# EAGLE library part LPC4300_LQFP208 (library LPC4300)
LQFP208 - SOT459-1 LQFP208: plastic low profile quad flat package; 208 leads; body 28 x 28 x 1.4 mm body + leads 30 x 30 mm Solderland (pads) 0.4 x 1.5 mm on corners (8 x) and 0.28 x 1.5 mm (200 x)
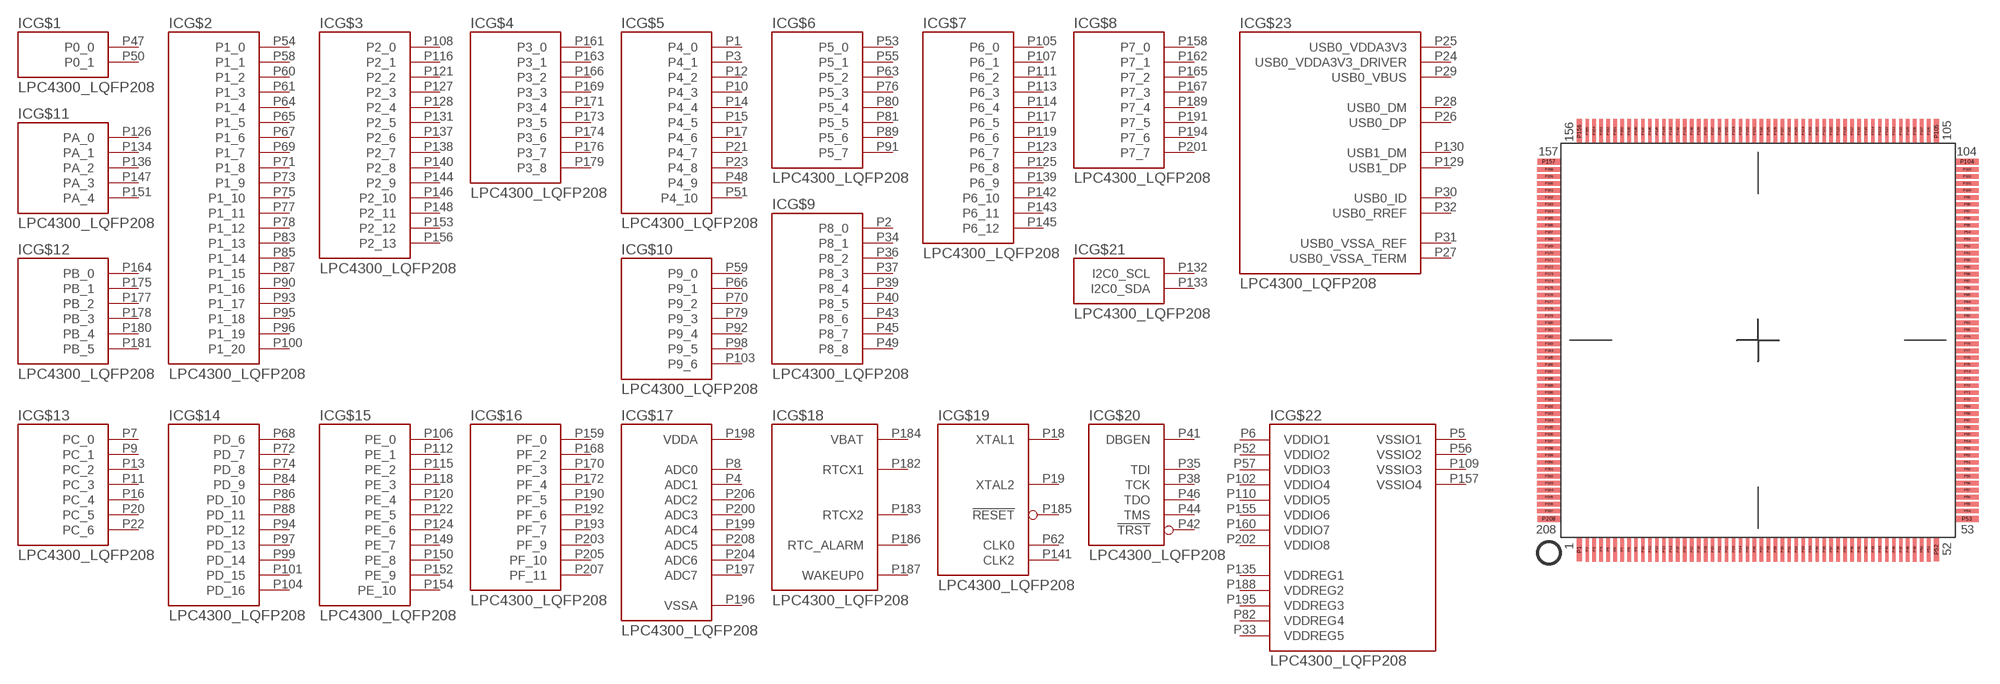
[diagram p3: symbol with the pads of LQFP208; footprint LQFP208]

Designator prefix IC; gates G$1=208_1_PORT0 G$2=208_2_PORT1 G$3=208_3_PORT2 G$4=208_4_PORT3 G$5=208_5_PORT4 G$6=208_6_PORT5 G$7=208_7_PORT6 G$8=208_8_PORT7 G$9=208_9_PORT8 G$10=208_10_PORT9 G$11=208_11_PORTA G$12=208_12_PORTB G$13=208_13_PORTC G$14=208_14_PORTD G$15=208_15_PORTE G$16=208_16_PORTF G$17=208_17_ANA G$18=208_18_RTC G$19=208_19_CLK G$20=208_20_DBUG G$21=208_21_I2C G$22=208_22_SUP G$23=208_23_USB

## LPC4300_LQFP208  [LQFP208]
P1  G$5:P4_0
P2  G$9:P8_0
P3  G$5:P4_1
P4  G$17:ADC1  in
P5  G$22:VSSIO1  sup
P6  G$22:VDDIO1  sup
P7  G$13:PC_0
P8  G$17:ADC0  in
P9  G$13:PC_1
P10  G$5:P4_3
P11  G$13:PC_3
P12  G$5:P4_2
P13  G$13:PC_2
P14  G$5:P4_4
P15  G$5:P4_5
P16  G$13:PC_4
P17  G$5:P4_6
P18  G$19:XTAL1  in
P19  G$19:XTAL2  out
P20  G$13:PC_5
P21  G$5:P4_7
P22  G$13:PC_6
P23  G$5:P4_8
P24  G$23:USB0_VDDA3V3_DRIVER
P25  G$23:USB0_VDDA3V3
P26  G$23:USB0_DP
P27  G$23:USB0_VSSA_TERM
P28  G$23:USB0_DM
P29  G$23:USB0_VBUS
P30  G$23:USB0_ID
P31  G$23:USB0_VSSA_REF
P32  G$23:USB0_RREF
P33  G$22:VDDREG5  sup
P34  G$9:P8_1
P35  G$20:TDI
P36  G$9:P8_2
P37  G$9:P8_3
P38  G$20:TCK
P39  G$9:P8_4
P40  G$9:P8_5
P41  G$20:DBGEN  in
P42  G$20:!TRST
P43  G$9:P8_6
P44  G$20:TMS
P45  G$9:P8_7
P46  G$20:TDO
P47  G$1:P0_0
P48  G$5:P4_9
P49  G$9:P8_8  sup
P50  G$1:P0_1
P51  G$5:P4_10
P52  G$22:VDDIO2  sup
P53  G$6:P5_0
P54  G$2:P1_0
P55  G$6:P5_1
P56  G$22:VSSIO2  sup
P57  G$22:VDDIO3  sup
P58  G$2:P1_1
P59  G$10:P9_0
P60  G$2:P1_2
P61  G$2:P1_3
P62  G$19:CLK0  out
P63  G$6:P5_2
P64  G$2:P1_4
P65  G$2:P1_5
P66  G$10:P9_1
P67  G$2:P1_6
P68  G$14:PD_6
P69  G$2:P1_7
P70  G$10:P9_2
P71  G$2:P1_8
P72  G$14:PD_7
P73  G$2:P1_9
P74  G$14:PD_8
P75  G$2:P1_10
P76  G$6:P5_3
P77  G$2:P1_11
P78  G$2:P1_12
P79  G$10:P9_3
P80  G$6:P5_4
P81  G$6:P5_5
P82  G$22:VDDREG4  sup
P83  G$2:P1_13
P84  G$14:PD_9
P85  G$2:P1_14
P86  G$14:PD_10
P87  G$2:P1_15
P88  G$14:PD_11
P89  G$6:P5_6
P90  G$2:P1_16
P91  G$6:P5_7
P92  G$10:P9_4
P93  G$2:P1_17
P94  G$14:PD_12
P95  G$2:P1_18
P96  G$2:P1_19
P97  G$14:PD_13
P98  G$10:P9_5
P99  G$14:PD_14
P100  G$2:P1_20
P101  G$14:PD_15
P102  G$22:VDDIO4  sup
P103  G$10:P9_6
P104  G$14:PD_16
P105  G$7:P6_0
P106  G$15:PE_0
P107  G$7:P6_1
P108  G$3:P2_0
P109  G$22:VSSIO3  sup
P110  G$22:VDDIO5  sup
P111  G$7:P6_2
P112  G$15:PE_1
P113  G$7:P6_3
P114  G$7:P6_4
P115  G$15:PE_2
P116  G$3:P2_1
P117  G$7:P6_5
P118  G$15:PE_3
P119  G$7:P6_6
P120  G$15:PE_4
P121  G$3:P2_2
P122  G$15:PE_5
P123  G$7:P6_7
P124  G$15:PE_6
P125  G$7:P6_8
P126  G$11:PA_0
P127  G$3:P2_3
P128  G$3:P2_4
P129  G$23:USB1_DP
P130  G$23:USB1_DM
P131  G$3:P2_5
P132  G$21:I2C0_SCL
P133  G$21:I2C0_SDA
P134  G$11:PA_1
P135  G$22:VDDREG1  sup
P136  G$11:PA_2
P137  G$3:P2_6
P138  G$3:P2_7
P139  G$7:P6_9
P140  G$3:P2_8
P141  G$19:CLK2  out
P142  G$7:P6_10
P143  G$7:P6_11
P144  G$3:P2_9
P145  G$7:P6_12
P146  G$3:P2_10
P147  G$11:PA_3
P148  G$3:P2_11
P149  G$15:PE_7
P150  G$15:PE_8
P151  G$11:PA_4
P152  G$15:PE_9
P153  G$3:P2_12
P154  G$15:PE_10
P155  G$22:VDDIO6  sup
P156  G$3:P2_13
P157  G$22:VSSIO4  sup
P158  G$8:P7_0
P159  G$16:PF_0
P160  G$22:VDDIO7  sup
P161  G$4:P3_0
P162  G$8:P7_1
P163  G$4:P3_1
P164  G$12:PB_0
P165  G$8:P7_2
P166  G$4:P3_2
P167  G$8:P7_3
P168  G$16:PF_2
P169  G$4:P3_3
P170  G$16:PF_3
P171  G$4:P3_4
P172  G$16:PF_4
P173  G$4:P3_5
P174  G$4:P3_6
P175  G$12:PB_1
P176  G$4:P3_7
P177  G$12:PB_2
P178  G$12:PB_3
P179  G$4:P3_8
P180  G$12:PB_4
P181  G$12:PB_5
P182  G$18:RTCX1  in
P183  G$18:RTCX2  out
P184  G$18:VBAT  pwr
P185  G$19:!RESET  in
P186  G$18:RTC_ALARM  out
P187  G$18:WAKEUP0  in
P188  G$22:VDDREG2  sup
P189  G$8:P7_4
P190  G$16:PF_5
P191  G$8:P7_5
P192  G$16:PF_6
P193  G$16:PF_7
P194  G$8:P7_6
P195  G$22:VDDREG3  sup
P196  G$17:VSSA  sup
P197  G$17:ADC7  in
P198  G$17:VDDA  sup
P199  G$17:ADC4  in
P200  G$17:ADC3  in
P201  G$8:P7_7
P202  G$22:VDDIO8  sup
P203  G$16:PF_9
P204  G$17:ADC6  in
P205  G$16:PF_10
P206  G$17:ADC2  in
P207  G$16:PF_11
P208  G$17:ADC5  in

## Footprint LQFP208 (pad centres in mm)
LQFP208 - SOT459-1 LQFP208: plastic low profile quad flat package; 208 leads; body 28 x 28 x 1.4 mm body + leads 30 x 30 mm Solderland (pads) 0.4 x 1.5 mm on corners (8 x) and 0.28 x 1.5 mm (200 x) .
smd 0.4 x 1.7: P1 -12.81,-15; P52 12.81,-15; P105 12.81,15; P156 -12.81,15
smd 0.28 x 1.7: P2 -12.25,-15; P3 -11.75,-15; P4 -11.25,-15; P5 -10.75,-15; P6 -10.25,-15; P7 -9.75,-15; P8 -9.25,-15; P9 -8.75,-15; P10 -8.25,-15; P11 -7.75,-15; P12 -7.25,-15; P13 -6.75,-15; P14 -6.25,-15; P15 -5.75,-15; P16 -5.25,-15; P17 -4.75,-15; P18 -4.25,-15; P19 -3.75,-15; P20 -3.25,-15; P21 -2.75,-15; P22 -2.25,-15; P23 -1.75,-15; P24 -1.25,-15; P25 -0.75,-15; P26 -0.25,-15; P27 0.25,-15; P28 0.75,-15; P29 1.25,-15; P30 1.75,-15; P31 2.25,-15; P32 2.75,-15; P33 3.25,-15; P34 3.75,-15; P35 4.25,-15; P36 4.75,-15; P37 5.25,-15; P38 5.75,-15; P39 6.25,-15; P40 6.75,-15; P41 7.25,-15; P42 7.75,-15; P43 8.25,-15; P44 8.75,-15; P45 9.25,-15; P46 9.75,-15; P47 10.25,-15; P48 10.75,-15; P49 11.25,-15; P50 11.75,-15; P51 12.25,-15; P106 12.25,15; P107 11.75,15; P108 11.25,15; P109 10.75,15; P110 10.25,15; P111 9.75,15; P112 9.25,15; P113 8.75,15; P114 8.25,15; P115 7.75,15; P116 7.25,15; P117 6.75,15; P118 6.25,15; P119 5.75,15; P120 5.25,15; P121 4.75,15; P122 4.25,15; P123 3.75,15; P124 3.25,15; P125 2.75,15; P126 2.25,15; P127 1.75,15; P128 1.25,15; P129 0.75,15; P130 0.25,15; P131 -0.25,15; P132 -0.75,15; P133 -1.25,15; P134 -1.75,15; P135 -2.25,15; P136 -2.75,15; P137 -3.25,15; P138 -3.75,15; P139 -4.25,15; P140 -4.75,15; P141 -5.25,15; P142 -5.75,15; P143 -6.25,15; P144 -6.75,15; P145 -7.25,15; P146 -7.75,15; P147 -8.25,15; P148 -8.75,15; P149 -9.25,15; P150 -9.75,15; P151 -10.25,15; P152 -10.75,15; P153 -11.25,15; P154 -11.75,15; P155 -12.25,15
smd 1.7 x 0.4: P53 15,-12.81; P104 15,12.81; P157 -15,12.81; P208 -15,-12.81
smd 1.7 x 0.28: P54 15,-12.25; P55 15,-11.75; P56 15,-11.25; P57 15,-10.75; P58 15,-10.25; P59 15,-9.75; P60 15,-9.25; P61 15,-8.75; P62 15,-8.25; P63 15,-7.75; P64 15,-7.25; P65 15,-6.75; P66 15,-6.25; P67 15,-5.75; P68 15,-5.25; P69 15,-4.75; P70 15,-4.25; P71 15,-3.75; P72 15,-3.25; P73 15,-2.75; P74 15,-2.25; P75 15,-1.75; P76 15,-1.25; P77 15,-0.75; P78 15,-0.25; P79 15,0.25; P80 15,0.75; P81 15,1.25; P82 15,1.75; P83 15,2.25; P84 15,2.75; P85 15,3.25; P86 15,3.75; P87 15,4.25; P88 15,4.75; P89 15,5.25; P90 15,5.75; P91 15,6.25; P92 15,6.75; P93 15,7.25; P94 15,7.75; P95 15,8.25; P96 15,8.75; P97 15,9.25; P98 15,9.75; P99 15,10.25; P100 15,10.75; P101 15,11.25; P102 15,11.75; P103 15,12.25; P158 -15,12.25; P159 -15,11.75; P160 -15,11.25; P161 -15,10.75; P162 -15,10.25; P163 -15,9.75; P164 -15,9.25; P165 -15,8.75; P166 -15,8.25; P167 -15,7.75; P168 -15,7.25; P169 -15,6.75; P170 -15,6.25; P171 -15,5.75; P172 -15,5.25; P173 -15,4.75; P174 -15,4.25; P175 -15,3.75; P176 -15,3.25; P177 -15,2.75; P178 -15,2.25; P179 -15,1.75; P180 -15,1.25; P181 -15,0.75; P182 -15,0.25; P183 -15,-0.25; P184 -15,-0.75; P185 -15,-1.25; P186 -15,-1.75; P187 -15,-2.25; P188 -15,-2.75; P189 -15,-3.25; P190 -15,-3.75; P191 -15,-4.25; P192 -15,-4.75; P193 -15,-5.25; P194 -15,-5.75; P195 -15,-6.25; P196 -15,-6.75; P197 -15,-7.25; P198 -15,-7.75; P199 -15,-8.25; P200 -15,-8.75; P201 -15,-9.25; P202 -15,-9.75; P203 -15,-10.25; P204 -15,-10.75; P205 -15,-11.25; P206 -15,-11.75; P207 -15,-12.25